# EAGLE library part 74LVC1T45GW,125 (library 74LVC1T45GW_125)
74LVC1T45; 74LVCH1T45 - Dual supply translating transceiver; 3-state@en-us Source: Datasheet <https://assets.nexperia.com/documents/data-sheet/74LVC_LVCH1T45.pdf>
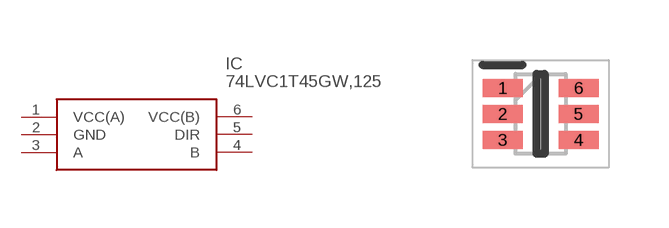
[diagram p0: symbol with the pads of SOT65P210X110-6N; footprint SOT65P210X110-6N]

Designator prefix IC

## 74LVC1T45GW,125 (Description: 74LVC1T45; 74LVCH1T45 - Dual supply translating transceiver; 3-state@en-us; Height: 1.1mm; Manufacturer_Name: Nexperia; Manufacturer_Part_Number: 74LVC1T45GW,125; Mouser_Part_Number: 771-74LVC1T45GW125; Mouser_Price-Stock: https://www.mouser.co.uk/ProductDetail/Nexperia/74LVC1T45GW125?qs=jquClx72t9Aoi%252BsTRKaaAg%3D%3D)  [SOT65P210X110-6N]
1  VCC(A)
2  GND
3  A
4  B
5  DIR
6  VCC(B)

## Footprint SOT65P210X110-6N (pad centres in mm)
SOT363 (SC-88)_
smd 1 x 0.45: 1 -0.95,0.65; 2 -0.95,0; 3 -0.95,-0.65; 4 0.95,-0.65; 5 0.95,0; 6 0.95,0.65